# Altium integrated library WS-TATL 12x12 mm THT illuminated.IntLib: 8 symbols
Pins are listed as number, name and electrical type; pins without a type are passive.

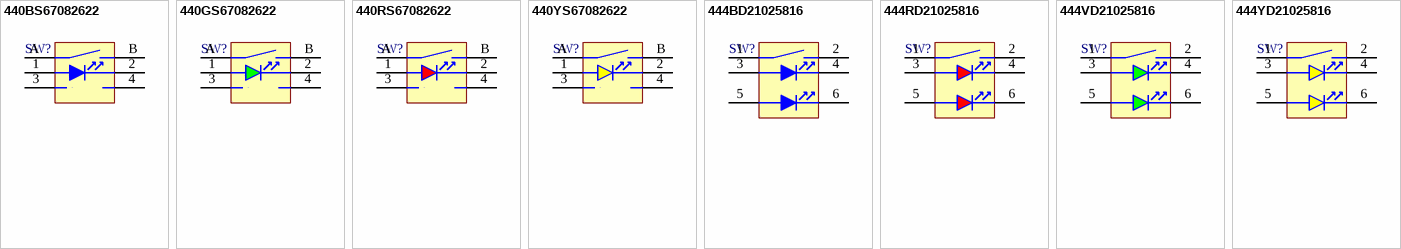
[diagram p0: symbols 440BS67082622 to 444YD21025816]

## 440BS67082622
designator SW?
WS-TATL 12x12mm Tact Switch with integrated LED, THT version, 6 pins; PartNumber: 440BS67082622; NoPins: 06; PackageReference: 440BS67082622; ComponentLink1Description: Manufacturer URL; ComponentLink1URL: http://www.we-online.com; ComponentLink2Description: Datasheet; ComponentLink2URL: http://katalog.we-online.de/em/datasheet/440xx67082622.pdf
footprint 440BS67082622 (12*12 vertical type, THT, height 8.2mm,white diffuser plate, blue LED, Tray)
pins: 1, 2, 3, 4, A, B

## 440GS67082622
designator SW?
WS-TATL 12x12mm Tact Switch with integrated LED, THT version, 6 pins; PartNumber: 440GS67082622; NoPins: 06; PackageReference: 440GS67082622; ComponentLink1Description: Manufacturer URL; ComponentLink1URL: http://www.we-online.com; ComponentLink2Description: Datasheet; ComponentLink2URL: http://katalog.we-online.de/em/datasheet/440xx67082622.pdf
footprint 440GS67082622 (12*12 vertical type, THT, height 8.2mm,white diffuser plate, pure green LED, Tray)
pins: 1, 2, 3, 4, A, B

## 440RS67082622
designator SW?
WS-TATL 12x12mm Tact Switch with integrated LED, THT version, 6 pins; PartNumber: 440RS67082622; NoPins: 06; PackageReference: 440RS67082622; ComponentLink1Description: Manufacturer URL; ComponentLink1URL: http://www.we-online.com; ComponentLink2Description: Datasheet; ComponentLink2URL: http://katalog.we-online.de/em/datasheet/440xx67082622.pdf
footprint 440RS67082622 (12*12 vertical type, THT, height 8.2mm,white diffuser plate, red LED, Tray)
pins: 1, 2, 3, 4, A, B

## 440YS67082622
designator SW?
WS-TATL 12x12mm Tact Switch with integrated LED, THT version, 6 pins; PartNumber: 440YS67082622; NoPins: 06; PackageReference: 440YS67082622; ComponentLink1Description: Manufacturer URL; ComponentLink1URL: http://www.we-online.com; ComponentLink2Description: Datasheet; ComponentLink2URL: http://katalog.we-online.de/em/datasheet/440xx67082622.pdf
footprint 440YS67082622 (12*12 vertical type, THT, height 8.2mm,white diffuser plate, yellow LED, Tray)
pins: 1, 2, 3, 4, A, B

## 444BD21025816
designator SW?
WS-TASL 6,8*4,5mm Tact Switch with integrated LED, SMD version, 6 pins; PartNumber: 444BD21025816; NoPins: 06; PackageReference: 444BD21025816; ComponentLink1Description: Manufacturer URL; ComponentLink1URL: http://www.we-online.com; ComponentLink2Description: Datasheet; ComponentLink2URL: http://katalog.we-online.de/em/datasheet/444xx21025816.pdf
footprint 444BD21025816 (8*4.5mm vertical type, SMD, height 2.5mm, blue double color LED, T&R)
pins: 1, 2, 3, 4, 5, 6

## 444RD21025816
designator SW?
WS-TASL 6,8*4,5mm Tact Switch with integrated LED, SMD version, 6 pins; PartNumber: 444RD21025816; NoPins: 06; PackageReference: 444RD21025816; ComponentLink1Description: Manufacturer URL; ComponentLink1URL: http://www.we-online.com; ComponentLink2Description: Datasheet; ComponentLink2URL: http://katalog.we-online.de/em/datasheet/444xx21025816.pdf
footprint 444RD21025816 (8*4.5mm vertical type, SMD, height 2.5mm, red double color LED, T&R)
pins: 1, 2, 3, 4, 5, 6

## 444VD21025816
designator SW?
WS-TASL 6,8*4,5mm Tact Switch with integrated LED, SMD version, 6 pins; PartNumber: 444VD21025816; NoPins: 06; PackageReference: 444VD21025816; ComponentLink1Description: Manufacturer URL; ComponentLink1URL: http://www.we-online.com; ComponentLink2Description: Datasheet; ComponentLink2URL: http://katalog.we-online.de/em/datasheet/444xx21025816.pdf
footprint 444VD21025816 (8*4.5mm vertical type, SMD, height 2.5mm, bright green double color LED, T&R)
pins: 1, 2, 3, 4, 5, 6

## 444YD21025816
designator SW?
WS-TASL 6,8*4,5mm Tact Switch with integrated LED, SMD version, 6 pins; PartNumber: 444YD21025816; NoPins: 06; PackageReference: 444YD21025816; ComponentLink1Description: Manufacturer URL; ComponentLink1URL: http://www.we-online.com; ComponentLink2Description: Datasheet; ComponentLink2URL: http://katalog.we-online.de/em/datasheet/444xx21025816.pdf
footprint 444YD21025816 (8*4.5mm vertical type, SMD, height 2.5mm, yellow double color LED, T&R)
pins: 1, 2, 3, 4, 5, 6